# Altium footprint library EXP_HW_V3.PcbLib: 103 footprints (part 1 of 7)
Each footprint in its own frame and in the unit in brackets; x right, y up, seen from the top. Pads: shape width x height; smd on the part's side, far side on the other; paste and mask are expansions set on the pad; w line width, h text height; cw(c..) or ccw(c..) is an arc to the next point about the centre after c.
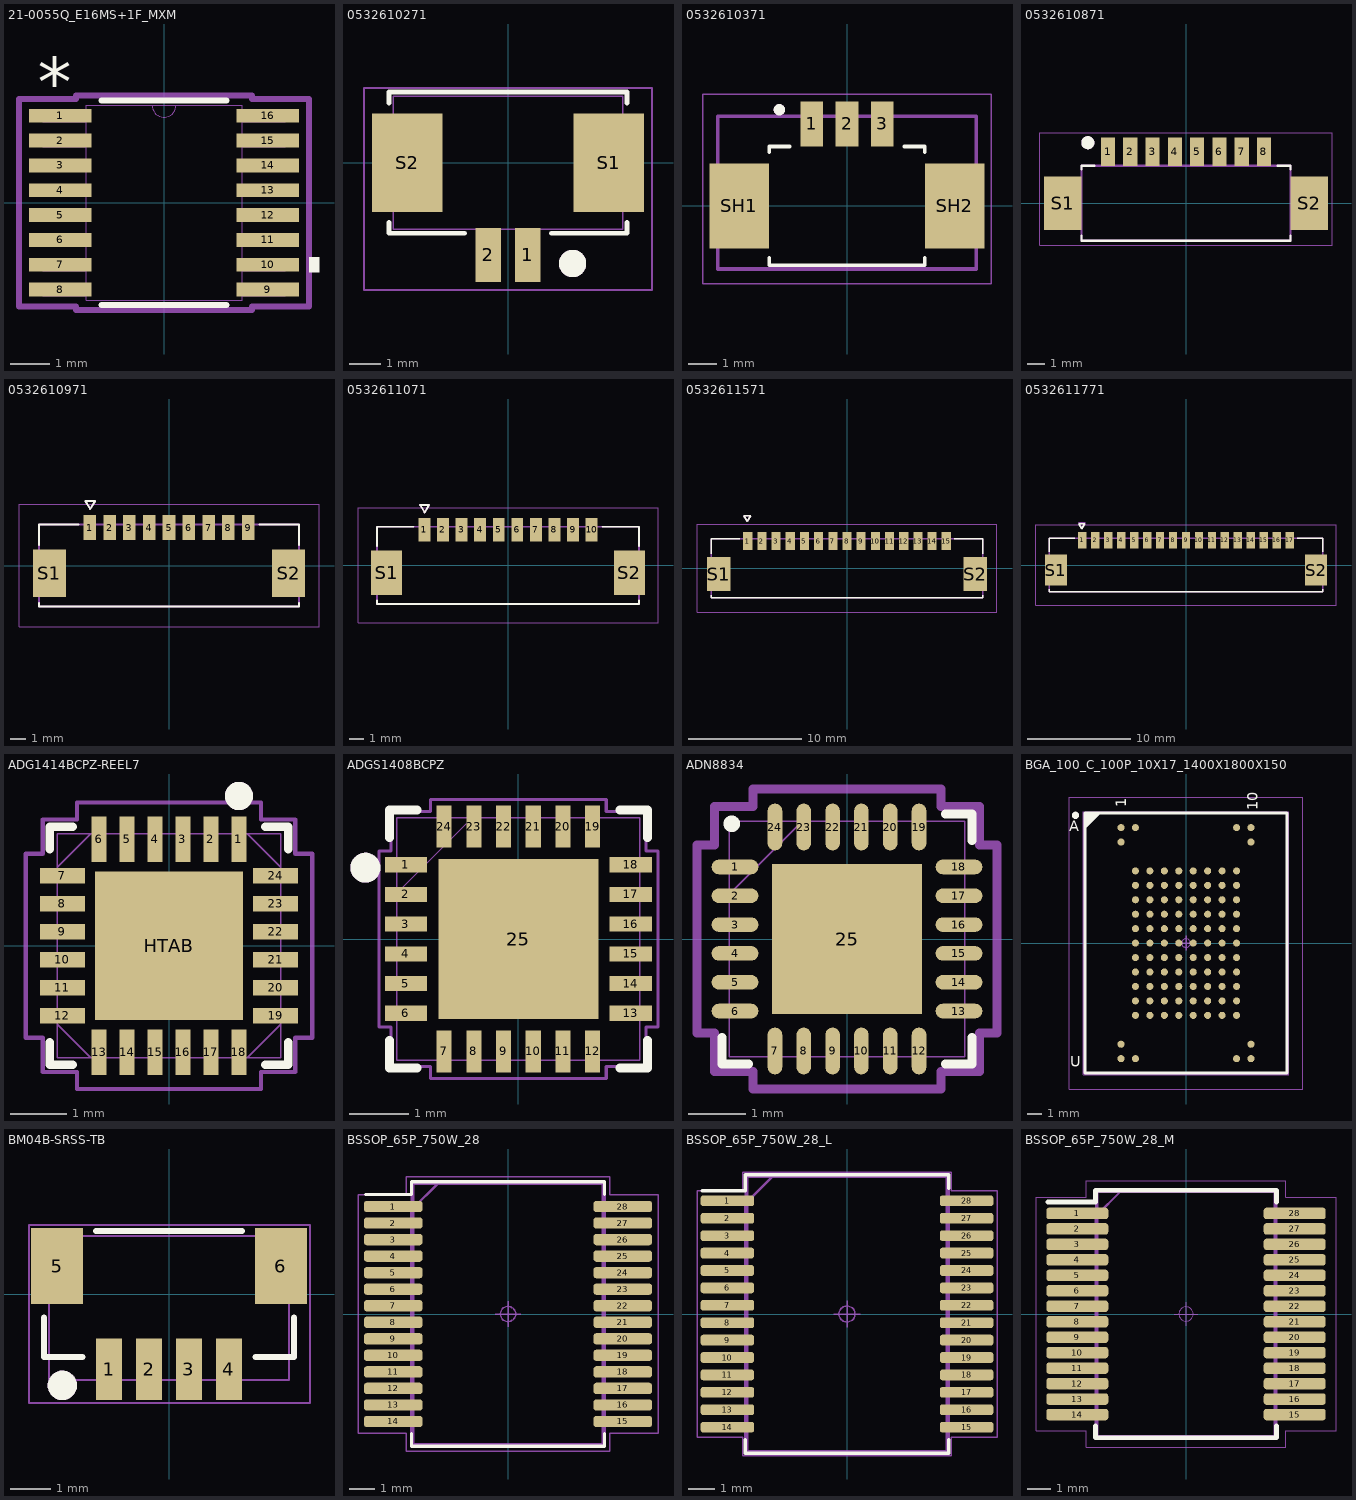
[diagram p0: the footprints below, top view; thin cyan lines are the x and y axes]

## 21-0055Q_E16MS+1F_MXM [mil]
pads (16):
  rect 63x14 smd paste+0: 1(-104.5,87.5) 2(-104.5,62.5) 3(-104.5,37.5) 4(-104.5,12.5) 5(-104.5,-12.5) 6(-104.5,-37.5) 7(-104.5,-62.5) 8(-104.5,-87.5) 9(104.5,-87.5) 10(104.5,-62.5) 11(104.5,-37.5) 12(104.5,-12.5) 13(104.5,12.5) 14(104.5,37.5) 15(104.5,62.5) 16(104.5,87.5)
Top Overlay:
  region: 146,-55 156,-55 156,-70 146,-70
  lines w6: -63.03,-103 63.03,-103 ; -63.03,103 63.03,103
  text "*" at -127,96.5 h50
Mechanical 13:
  lines w0: -12,98 ccw(c0,98) 12,98
  lines w1: -122,-93.5 -122,-81.5 -78.5,-81.5 -78.5,-93.5 -122,-93.5 ; -122,-68.5 -122,-56.5 -78.5,-56.5 -78.5,-68.5 -122,-68.5 ; -122,-43.5 -122,-31.5 -78.5,-31.5 -78.5,-43.5 -122,-43.5 ; -122,-18.5 -122,-6.5 -78.5,-6.5 -78.5,-18.5 -122,-18.5 ; -122,6.5 -122,18.5 -78.5,18.5 -78.5,6.5 -122,6.5 ; -122,31.5 -122,43.5 -78.5,43.5 -78.5,31.5 -122,31.5 ; -122,56.5 -122,68.5 -78.5,68.5 -78.5,56.5 -122,56.5 ; -122,81.5 -122,93.5 -78.5,93.5 -78.5,81.5 -122,81.5 ; -78.5,-98 78.5,-98 78.5,98 -78.5,98 -78.5,-98 ; 78.5,-93.5 78.5,-81.5 122,-81.5 122,-93.5 78.5,-93.5 ; 78.5,-68.5 78.5,-56.5 122,-56.5 122,-68.5 78.5,-68.5 ; 78.5,-43.5 78.5,-31.5 122,-31.5 122,-43.5 78.5,-43.5 ; 78.5,-18.5 78.5,-6.5 122,-6.5 122,-18.5 78.5,-18.5 ; 78.5,6.5 78.5,18.5 122,18.5 122,6.5 78.5,6.5 ; 78.5,31.5 78.5,43.5 122,43.5 122,31.5 78.5,31.5 ; 78.5,56.5 78.5,68.5 122,68.5 122,56.5 78.5,56.5 ; 78.5,81.5 78.5,93.5 122,93.5 122,81.5 78.5,81.5
  text "*" at -76,45 h50
Mechanical 15:
  lines w6: -146,-104.5 -146,104.5 -88.5,104.5 -88.5,108 88.5,108 88.5,104.5 146,104.5 146,-104.5 88.5,-104.5 88.5,-108 -88.5,-108 -88.5,-104.5 -146,-104.5
3D body "21-0055Q_E16MS+1F_MXM.step": height 69.09, standoff 0, extent -122.01,-97.99 122.01,97.99

## 0532610271 [mil] "CONN HEADER SMD R/A 2POS 1.25MM"
pads (4):
  rect 32x67 smd paste+0: 1(24.61,-114.35) 2(-24.61,-114.35)
  rect 87x122 smd paste+0: S1(125,-0.18) S2(-125,-0.18)
Top Overlay:
  circle w20: c80,-125 r7
  lines w6: -147.5,-74.28 -147.5,-87.5 -53.71,-87.5 ; -147.5,73.92 -147.5,87.5 147.5,87.5 147.5,73.92 ; 53.71,-87.5 147.5,-87.5 147.5,-74.28
Mechanical 13:
  circle w20: c80,-125 r7
  lines w2: -142.5,-82.5 -142.5,82.5 142.5,82.5 142.5,-82.5 -142.5,-82.5
Mechanical 15:
  lines w2: -178.5,-157.85 178.5,-157.85 178.5,92.5 -178.5,92.5 -178.5,-157.85
3D body "0532610271.step": height 133.86, standoff 0, extent -150.59,-115 150.59,89.72

## 0532610371 [mm] "CONN HEADER SMD R/A 3POS 1.25MM"
pads (5):
  rect 0.8x1.6 smd: 1(-1.25,2.9) 2(0,2.9) 3(1.25,2.9)
  rect 2.1x3 smd: SH1(-3.8,0) SH2(3.8,0)
Top Overlay:
  circle w0.2: c-2.39,3.4 r0.1
  lines w0.127: -2.75,-1.825 -2.75,-2.1 2.75,-2.1 2.75,-1.825 ; -2.75,1.9 -2.75,2.1 -2.025,2.1 ; 2.025,2.1 2.75,2.1 2.75,1.9
Top Assembly:
  lines w0.127: -4.572,-2.228 4.572,-2.228 4.572,3.175 -4.572,3.175 -4.572,-2.228
  text "'.Designator'" at -9.318,-1.454 h1.9
Mechanical 13:
  circle w0.2: c-2.39,3.4 r0.1
Mechanical 15:
  lines w0.05: -5.1,-2.75 -5.1,3.95 5.1,3.95 5.1,-2.75 -5.1,-2.75
3D body "0532610371.step": height 3.43, standoff 0.03, extent -4.45,-2.118 4.45,3.082

## 0532610871 [mm] "CONN HEADER SMD R/A 8POS 1.25MM"
pads (10):
  rect 0.8x1.6 smd: 1(-4.375,2.9) 2(-3.125,2.9) 3(-1.875,2.9) 4(-0.625,2.9) 5(0.625,2.9) 6(1.875,2.9) 7(3.125,2.9) 8(4.375,2.9)
  rect 2.1x3 smd: S1(-6.925,0) S2(6.925,0)
Top Overlay:
  circle w0.381: c-5.515,3.4 r0.178
  lines w0.127: -5.875,-1.825 -5.875,-2.1 5.875,-2.1 5.875,-1.825 ; -5.875,1.9 -5.875,2.1 -5.15,2.1 ; 5.15,2.1 5.875,2.1 5.875,1.9
Top Assembly:
  circle w0.381: c-5.515,3.4 r0.178
  lines w0.127: -5.875,-2.1 -5.875,2.1 5.875,2.1 5.875,-2.1 -5.875,-2.1
  text "'.Designator'" at -9.318,-1.454 h1.8
Mechanical 15:
  lines w0.05: -8.225,-2.35 -8.225,3.95 8.225,3.95 8.225,-2.35 -8.225,-2.35

## 0532610971 [mm] "CONN HEADER SMD R/A 9POS 1.25MM"
pads (11):
  rect 0.8x1.6 smd mask+0.076: 1(-5,2.4) 2(-3.75,2.4) 3(-2.5,2.4) 4(-1.25,2.4) 5(0,2.4) 6(1.25,2.4) 7(2.5,2.4) 8(3.75,2.4) 9(5,2.4)
  rect 2.1x3 smd mask+0.076: S1(-7.55,-0.5) S2(7.55,-0.5)
Top Overlay:
  lines w0.127: -8.2,-2.35 -8.2,-2.6 8.2,-2.6 8.2,-2.35 ; -8.2,1.3 -8.2,2.6 -5.72,2.6 ; 5.72,2.6 8.2,2.6 8.2,1.3 ; -5.278,4.067 -4.678,4.067 -4.978,3.567 -5.278,4.067
Top Assembly:
  text "'.Designator'" at -11.717,-2.718 h1.9
Mechanical 13:
  lines w0.127: -8.2,-2.6 8.2,-2.6 8.2,2.6 -8.2,2.6 -8.2,-2.6 ; -5.278,4.067 -4.678,4.067 -4.978,3.567 -5.278,4.067
Mechanical 15:
  lines w0.05: -9.47,-3.87 9.47,-3.87 9.47,3.87 -9.47,3.87 -9.47,-3.87
3D body "0532610971.stp": height 3.2, standoff -0.2, extent -8.2,-2.667 8.2,2.533

## 0532611071 [mm] "CONN HEADER SMD R/A 10POS 1.25MM"
pads (12):
  rect 0.8x1.6 smd mask+0.076: 1(-5.625,2.4) 2(-4.375,2.4) 3(-3.125,2.4) 4(-1.875,2.4) 5(-0.625,2.4) 6(0.625,2.4) 7(1.875,2.4) 8(3.125,2.4) 9(4.375,2.4) 10(5.625,2.4)
  rect 2.1x3 smd mask+0.076: S1(-8.175,-0.5) S2(8.175,-0.5)
Top Overlay:
  lines w0.127: -8.825,-2.35 -8.825,-2.6 8.825,-2.6 8.825,-2.35 ; -8.825,1.3 -8.825,2.6 -6.345,2.6 ; 6.345,2.6 8.825,2.6 8.825,1.3 ; -5.913,4.057 -5.313,4.057 -5.613,3.557 -5.913,4.057
Top Assembly:
  lines w0.127: -8.825,-2.6 -8.825,2.6 8.825,2.6 8.825,-2.6 -8.825,-2.6 ; -5.913,4.057 -5.613,3.557 -5.313,4.057 -5.913,4.057
  text "'.Designator'" at -9.318,-1.454 h1.6
Mechanical 15:
  lines w0.05: -10.095,-3.87 10.095,-3.87 10.095,3.87 -10.095,3.87 -10.095,-3.87
3D body "532611071.step": height 3.43, standoff 0.03, extent -8.825,-2.626 8.825,2.574

## 0532611571 [mm]
height 3.4
pads (17):
  rect 0.8x1.6 smd mask+0.076: 1(-8.75,2.4) 2(-7.5,2.4) 3(-6.25,2.4) 4(-5,2.4) 5(-3.75,2.4) 6(-2.5,2.4) 7(-1.25,2.4) 8(0,2.4) 9(1.25,2.4) 10(2.5,2.4) 11(3.75,2.4) 12(5,2.4) 13(6.25,2.4) 14(7.5,2.4) 15(8.75,2.4)
  rect 2.1x3 smd mask+0.076: S1(-11.3,-0.5) S2(11.3,-0.5)
Top Overlay:
  lines w0.127: -11.95,-2.35 -11.95,-2.6 11.95,-2.6 11.95,-2.35 ; -11.95,1.3 -11.95,2.6 -9.47,2.6 ; 9.47,2.6 11.95,2.6 11.95,1.3 ; -9.088,4.642 -8.788,4.142 -8.488,4.642 -9.088,4.642
Mechanical 13:
  lines w0.127: -11.95,-2.6 -11.95,2.6 11.95,2.6 11.95,-2.6 -11.95,-2.6 ; -9.088,4.642 -8.788,4.142 -8.488,4.642 -9.088,4.642
Mechanical 15:
  lines w0.05: -13.22,-3.87 -13.22,3.87 13.22,3.87 13.22,-3.87 -13.22,-3.87
3D body "532611571.stp": height 3.45, standoff 0.05, extent -11.95,-2.607 11.95,2.593

## 0532611771 [mm] "CONN HEADER SMD R/A 17POS 1.25MM"
pads (19):
  rect 0.8x1.6 smd mask+0.076: 1(-10,2.4) 2(-8.75,2.4) 3(-7.5,2.4) 4(-6.25,2.4) 5(-5,2.4) 6(-3.75,2.4) 7(-2.5,2.4) 8(-1.25,2.4) 9(0,2.4) 10(1.25,2.4) 11(2.5,2.4) 12(3.75,2.4) 13(5,2.4) 14(6.25,2.4) 15(7.5,2.4) 16(8.75,2.4) 17(10,2.4)
  rect 2.1x3 smd mask+0.076: S1(-12.55,-0.5) S2(12.55,-0.5)
Top Overlay:
  lines w0.127: -13.2,-2.35 -13.2,-2.6 13.2,-2.6 13.2,-2.35 ; -13.2,1.3 -13.2,2.6 -10.72,2.6 ; 10.72,2.6 13.2,2.6 13.2,1.3 ; -10.358,3.987 -10.058,3.487 -9.758,3.987 -10.358,3.987
Top Assembly:
  lines w0.127: -13.2,-2.6 13.2,-2.6 13.2,2.6 -13.2,2.6 -13.2,-2.6 ; -10.333,4.064 -9.733,4.064 -10.033,3.564 -10.333,4.064
  text "'.Designator'" at -9.318,-1.454 h1.9
Mechanical 15:
  lines w0.05: -14.47,-3.87 -14.47,3.87 14.47,3.87 14.47,-3.87 -14.47,-3.87
3D body "0532611771.stp": height 3.5, standoff 0, extent -13.39,-2.425 13.39,3.145

## ADG1414BCPZ-REEL7 [mm] "IC SW SPST-NOX8 11.5OHM 24LFCSP"
pads (25):
  rect 0.275x0.805 smd paste+0 mask+0.127: 1(1.25,1.902) 2(0.75,1.902) 3(0.25,1.902) 4(-0.25,1.902) 5(-0.75,1.902) 6(-1.25,1.902) 13(-1.25,-1.902) 14(-0.75,-1.902) 15(-0.25,-1.902) 16(0.25,-1.902) 17(0.75,-1.902) 18(1.25,-1.902)
  rect 0.805x0.275 smd paste+0 mask+0.127: 7(-1.902,1.25) 8(-1.902,0.75) 9(-1.902,0.25) 10(-1.902,-0.25) 11(-1.902,-0.75) 12(-1.902,-1.25) 19(1.902,-1.25) 20(1.902,-0.75) 21(1.902,-0.25) 22(1.902,0.25) 23(1.902,0.75) 24(1.902,1.25)
  rect 2.65x2.65 smd paste+0 mask+0.127: HTAB(0,0)
Top Overlay:
  circle w0.254: c1.25,2.675 r0.125
  lines w0.152: -2.127,-1.72 -2.127,-2.127 -1.72,-2.127 ; -2.127,1.72 -2.127,2.127 -1.72,2.127 ; 1.72,-2.127 2.127,-2.127 2.127,-1.72 ; 1.72,2.127 2.127,2.127 2.127,1.72
Top Paste:
  region: -0.1,1.225 -1.225,1.225 -1.225,0.1 -0.1,0.1
  region: -0.1,-0.1 -1.225,-0.1 -1.225,-1.225 -0.1,-1.225
  region: 1.225,1.225 0.1,1.225 0.1,0.1 1.225,0.1
  region: 1.225,-0.1 0.1,-0.1 0.1,-1.225 1.225,-1.225
Top Assembly:
  circle w0.254: c1.25,2.675 r0.125
Mechanical 13:
  lines w0.025: -2,-1.4 -1.4,-2 ; -2,-1.4 -2,-1.1 -2,-1.4 ; -2,1.4 -1.4,2 ; -2,1.4 -2,1.1 -2,1.4 ; -1.4,-2 -1.1,-2 -1.4,-2 ; -1.4,2 -1.1,2 -1.4,2 ; 1.4,-2 2,-1.4 ; 1.4,-2 1.1,-2 1.4,-2 ; 1.4,2 2,1.4 ; 1.4,2 1.1,2 1.4,2 ; 2,-1.4 2,-1.1 2,-1.4 ; 2,1.4 2,1.1 2,1.4 ; -2,-2 2,-2 2,2 -2,2 -2,-2 ; -2,-0.9 -2,-0.6 -2,-0.9 ; -2,-0.4 -2,-0.1 -2,-0.4 ; -2,0.1 -2,0.4 -2,0.1 ; -2,0.6 -2,0.9 -2,0.6 ; -0.9,-2 -0.6,-2 -0.9,-2 ; -0.9,2 -0.6,2 -0.9,2 ; -0.4,-2 -0.1,-2 -0.4,-2 ; -0.4,2 -0.1,2 -0.4,2 ; 0.1,-2 0.4,-2 0.1,-2 ; 0.1,2 0.4,2 0.1,2 ; 0.6,-2 0.9,-2 0.6,-2 ; 0.6,2 0.9,2 0.6,2 ; 2,-0.9 2,-0.6 2,-0.9 ; 2,-0.4 2,-0.1 2,-0.4 ; 2,0.1 2,0.4 2,0.1 ; 2,0.6 2,0.9 2,0.6
  text "*" at 1.091,1.433 h0.64
Mechanical 15:
  lines w0.076: -2.559,-1.641 -2.254,-1.641 -2.254,-2.254 -1.641,-2.254 -1.641,-2.559 1.641,-2.559 1.641,-2.254 2.254,-2.254 2.254,-1.641 2.559,-1.641 2.559,1.641 2.254,1.641 2.254,2.254 1.641,2.254 1.641,2.559 -1.641,2.559 -1.641,2.254 -2.254,2.254 -2.254,1.641 -2.559,1.641 -2.559,-1.641
3D body "CP_24_3_ADI.step": height 0.6, standoff 0, extent -2,-2 2,2

## ADGS1408BCPZ [mil] "IC MUX 8:1 4.7OHM 24LFCSP"
pads (25):
  rect 28x10 smd paste+0 mask+0: 1(-74.5,49.21) 2(-74.5,29.53) 3(-74.5,9.84) 4(-74.5,-9.84) 5(-74.5,-29.53) 6(-74.5,-49.21) 13(74.5,-49.21) 14(74.5,-29.53) 15(74.5,-9.84) 16(74.5,9.84) 17(74.5,29.53) 18(74.5,49.21)
  rect 10x28 smd paste+0 mask+0: 7(-49.21,-74.5) 8(-29.53,-74.5) 9(-9.84,-74.5) 10(9.84,-74.5) 11(29.53,-74.5) 12(49.21,-74.5) 19(49.21,74.5) 20(29.53,74.5) 21(9.84,74.5) 22(-9.84,74.5) 23(-29.53,74.5) 24(-49.21,74.5)
  rect 106x106 smd paste-53 mask+0: 25(0,0)
Top Overlay:
  circle w10: c-101.38,47.24 r4.92
  lines w6: -85.5,-67.31 -85.5,-85.5 -67.31,-85.5 ; -85.5,67.31 -85.5,85.5 -67.31,85.5 ; 67.31,-85.5 85.5,-85.5 85.5,-67.31 ; 67.31,85.5 85.5,85.5 85.5,67.31
Top Paste:
  region: -3.94,49.06 -49.06,49.06 -49.06,3.94 -3.94,3.94
  region: -3.94,-3.94 -49.06,-3.94 -49.06,-49.06 -3.94,-49.06
  region: 49.06,49.06 3.94,49.06 3.94,3.94 49.06,3.94
  region: 49.06,-3.94 3.94,-3.94 3.94,-49.06 49.06,-49.06
Top Assembly:
  circle w10: c-101.38,47.24 r4.92
  text "'.Designator'" at -366.84,-58.21 h39.37
Mechanical 13:
  lines w1: -80.5,30.5 -30.5,80.5 ; -80.5,-80.5 80.5,-80.5 80.5,80.5 -80.5,80.5 -80.5,-80.5 ; -80.5,-55.21 -80.5,-43.21 -80.5,-55.21 ; -80.5,-35.53 -80.5,-23.53 -80.5,-35.53 ; -80.5,-15.84 -80.5,-3.84 -80.5,-15.84 ; -80.5,3.84 -80.5,15.84 -80.5,3.84 ; -80.5,23.53 -80.5,35.53 -80.5,23.53 ; -80.5,43.21 -80.5,55.21 -80.5,43.21 ; -55.21,-80.5 -43.21,-80.5 -55.21,-80.5 ; -55.21,80.5 -43.21,80.5 -55.21,80.5 ; -35.53,-80.5 -23.53,-80.5 -35.53,-80.5 ; -35.53,80.5 -23.53,80.5 -35.53,80.5 ; -15.84,-80.5 -3.84,-80.5 -15.84,-80.5 ; -15.84,80.5 -3.84,80.5 -15.84,80.5 ; 3.84,-80.5 15.84,-80.5 3.84,-80.5 ; 3.84,80.5 15.84,80.5 3.84,80.5 ; 23.53,-80.5 35.53,-80.5 23.53,-80.5 ; 23.53,80.5 35.53,80.5 23.53,80.5 ; 43.21,-80.5 55.21,-80.5 43.21,-80.5 ; 43.21,80.5 55.21,80.5 43.21,80.5 ; 80.5,-55.21 80.5,-43.21 80.5,-55.21 ; 80.5,-35.53 80.5,-23.53 80.5,-35.53 ; 80.5,-15.84 80.5,-3.84 80.5,-15.84 ; 80.5,3.84 80.5,15.84 80.5,3.84 ; 80.5,23.53 80.5,35.53 80.5,23.53 ; 80.5,43.21 80.5,55.21 80.5,43.21
Mechanical 15:
  lines w2: -92.5,-58.21 -84.5,-58.21 -84.5,-84.5 -58.21,-84.5 -58.21,-92.5 58.21,-92.5 58.21,-84.5 84.5,-84.5 84.5,-58.21 92.5,-58.21 92.5,58.21 84.5,58.21 84.5,84.5 58.21,84.5 58.21,92.5 -58.21,92.5 -58.21,84.5 -84.5,84.5 -84.5,58.21 -92.5,58.21 -92.5,-58.21
3D body "CP-24-17_ADI.step": height 39.09, standoff 0, extent -80.51,-80.51 80.51,80.51

## ADN8834 [mil] "IC THERMO COOLER DRIVER 24LFCSP"
pads (25):
  rrect100% 32x10 smd paste+0 mask+1.89: 1(-76.5,49.21) 2(-76.5,29.53) 3(-76.5,9.84) 4(-76.5,-9.84) 5(-76.5,-29.53) 6(-76.5,-49.21) 13(76.5,-49.21) 14(76.5,-29.53) 15(76.5,-9.84) 16(76.5,9.84) 17(76.5,29.53) 18(76.5,49.21)
  rrect100% 10x32 smd paste+0 mask+1.89: 7(-49.21,-76.5) 8(-29.53,-76.5) 9(-9.84,-76.5) 10(9.84,-76.5) 11(29.53,-76.5) 12(49.21,-76.5) 19(49.21,76.5) 20(29.53,76.5) 21(9.84,76.5) 22(-9.84,76.5) 23(-29.53,76.5) 24(-49.21,76.5)
  rect 102.36x102.36 smd paste-52 mask+1.89: 25(0,0)
Top Overlay:
  circle w5.91: c-78.74,78.74 r2.72
  lines w6: -85.5,-67.31 -85.5,-85.5 -67.31,-85.5 ; 67.31,-85.5 85.5,-85.5 85.5,-67.31 ; 67.31,85.5 85.5,85.5 85.5,67.31
Top Paste:
  region: 48.06,-3.94 3.94,-3.94 3.94,-48.06 48.06,-48.06
  region: 48.06,48.06 3.94,48.06 3.94,3.94 48.06,3.94
  region: -3.94,-3.94 -48.06,-3.94 -48.06,-48.06 -3.94,-48.06
  region: -3.94,48.06 -48.06,48.06 -48.06,3.94 -3.94,3.94
Mechanical 13:
  lines w1: -80.5,30.5 -30.5,80.5 ; -80.5,-80.5 -80.5,80.5 80.5,80.5 80.5,-80.5 -80.5,-80.5 ; -80.5,-55.21 -80.5,-43.21 -80.5,-55.21 ; -80.5,-35.53 -80.5,-23.53 -80.5,-35.53 ; -80.5,-15.84 -80.5,-3.84 -80.5,-15.84 ; -80.5,3.84 -80.5,15.84 -80.5,3.84 ; -80.5,23.53 -80.5,35.53 -80.5,23.53 ; -80.5,43.21 -80.5,55.21 -80.5,43.21 ; -55.21,-80.5 -43.21,-80.5 -55.21,-80.5 ; -55.21,80.5 -43.21,80.5 -55.21,80.5 ; -35.53,-80.5 -23.53,-80.5 -35.53,-80.5 ; -35.53,80.5 -23.53,80.5 -35.53,80.5 ; -15.84,-80.5 -3.84,-80.5 -15.84,-80.5 ; -15.84,80.5 -3.84,80.5 -15.84,80.5 ; 3.84,-80.5 15.84,-80.5 3.84,-80.5 ; 3.84,80.5 15.84,80.5 3.84,80.5 ; 23.53,-80.5 35.53,-80.5 23.53,-80.5 ; 23.53,80.5 35.53,80.5 23.53,80.5 ; 43.21,-80.5 55.21,-80.5 43.21,-80.5 ; 43.21,80.5 55.21,80.5 43.21,80.5 ; 80.5,-55.21 80.5,-43.21 80.5,-55.21 ; 80.5,-35.53 80.5,-23.53 80.5,-35.53 ; 80.5,-15.84 80.5,-3.84 80.5,-15.84 ; 80.5,3.84 80.5,15.84 80.5,3.84 ; 80.5,23.53 80.5,35.53 80.5,23.53 ; 80.5,43.21 80.5,55.21 80.5,43.21
  text "*" at -73,34.06 h50
Mechanical 15:
  lines w6: -102.5,-64.21 -102.5,64.21 -90.5,64.21 -90.5,90.5 -64.21,90.5 -64.21,102.5 64.21,102.5 64.21,90.5 90.5,90.5 90.5,64.21 102.5,64.21 102.5,-64.21 90.5,-64.21 90.5,-90.5 64.21,-90.5 64.21,-102.5 -64.21,-102.5 -64.21,-90.5 -90.5,-90.5 -90.5,-64.21 -102.5,-64.21
3D body "CP_24_7_ADI.step": height 32.09, standoff 0, extent -80.51,-80.51 80.51,80.51

## BGA_100_C_100P_10X17_1400X1800X150 [mm] "BGA, 100-Leads, Body 14.00x18.00mmx1.50mm, Pitch 1.00mm"
height 1.5
pads (200):
  round 0.49 smd: A1(-4.5,8) A2(-3.5,8) A9(3.5,8) A10(4.5,8) B1(-4.5,7) B10(4.5,7) D2(-3.5,5) D3(-2.5,5) D4(-1.5,5) D5(-0.5,5) D6(0.5,5) D7(1.5,5) D8(2.5,5) D9(3.5,5) E2(-3.5,4) E3(-2.5,4) E4(-1.5,4) E5(-0.5,4) E6(0.5,4) E7(1.5,4) E8(2.5,4) E9(3.5,4) F2(-3.5,3) F3(-2.5,3) F4(-1.5,3) F5(-0.5,3) F6(0.5,3) F7(1.5,3) F8(2.5,3) F9(3.5,3) G2(-3.5,2) G3(-2.5,2) G4(-1.5,2) G5(-0.5,2) G6(0.5,2) G7(1.5,2) G8(2.5,2) G9(3.5,2) H2(-3.5,1) H3(-2.5,1) H4(-1.5,1) H5(-0.5,1) H6(0.5,1) H7(1.5,1) H8(2.5,1) H9(3.5,1) J2(-3.5,0) J3(-2.5,0) J4(-1.5,0) J5(-0.5,0) J6(0.5,0) J7(1.5,0) J8(2.5,0) J9(3.5,0) K2(-3.5,-1) K3(-2.5,-1) K4(-1.5,-1) K5(-0.5,-1) K6(0.5,-1) K7(1.5,-1) K8(2.5,-1) K9(3.5,-1) L2(-3.5,-2) L3(-2.5,-2) L4(-1.5,-2) L5(-0.5,-2) L6(0.5,-2) L7(1.5,-2) L8(2.5,-2) L9(3.5,-2) M2(-3.5,-3) M3(-2.5,-3) M4(-1.5,-3) M5(-0.5,-3) M6(0.5,-3) M7(1.5,-3) M8(2.5,-3) M9(3.5,-3) N2(-3.5,-4) N3(-2.5,-4) N4(-1.5,-4) N5(-0.5,-4) N6(0.5,-4) N7(1.5,-4) N8(2.5,-4) N9(3.5,-4) P2(-3.5,-5) P3(-2.5,-5) P4(-1.5,-5) P5(-0.5,-5) P6(0.5,-5) P7(1.5,-5) P8(2.5,-5) P9(3.5,-5) T1(-4.5,-7) T10(4.5,-7) U1(-4.5,-8) U2(-3.5,-8) U9(3.5,-8) U10(4.5,-8)
  round 0.35 on Mech8 paste+0 mask+0: A1(-4.5,8) A2(-3.5,8) A9(3.5,8) A10(4.5,8) B1(-4.5,7) B10(4.5,7) D2(-3.5,5) D3(-2.5,5) D4(-1.5,5) D5(-0.5,5) D6(0.5,5) D7(1.5,5) D8(2.5,5) D9(3.5,5) E2(-3.5,4) E3(-2.5,4) E4(-1.5,4) E5(-0.5,4) E6(0.5,4) E7(1.5,4) E8(2.5,4) E9(3.5,4) F2(-3.5,3) F3(-2.5,3) F4(-1.5,3) F5(-0.5,3) F6(0.5,3) F7(1.5,3) F8(2.5,3) F9(3.5,3) G2(-3.5,2) G3(-2.5,2) G4(-1.5,2) G5(-0.5,2) G6(0.5,2) G7(1.5,2) G8(2.5,2) G9(3.5,2) H2(-3.5,1) H3(-2.5,1) H4(-1.5,1) H5(-0.5,1) H6(0.5,1) H7(1.5,1) H8(2.5,1) H9(3.5,1) J2(-3.5,0) J3(-2.5,0) J4(-1.5,0) J5(-0.5,0) J6(0.5,0) J7(1.5,0) J8(2.5,0) J9(3.5,0) K2(-3.5,-1) K3(-2.5,-1) K4(-1.5,-1) K5(-0.5,-1) K6(0.5,-1) K7(1.5,-1) K8(2.5,-1) K9(3.5,-1) L2(-3.5,-2) L3(-2.5,-2) L4(-1.5,-2) L5(-0.5,-2) L6(0.5,-2) L7(1.5,-2) L8(2.5,-2) L9(3.5,-2) M2(-3.5,-3) M3(-2.5,-3) M4(-1.5,-3) M5(-0.5,-3) M6(0.5,-3) M7(1.5,-3) M8(2.5,-3) M9(3.5,-3) N2(-3.5,-4) N3(-2.5,-4) N4(-1.5,-4) N5(-0.5,-4) N6(0.5,-4) N7(1.5,-4) N8(2.5,-4) N9(3.5,-4) P2(-3.5,-5) P3(-2.5,-5) P4(-1.5,-5) P5(-0.5,-5) P6(0.5,-5) P7(1.5,-5) P8(2.5,-5) P9(3.5,-5) T1(-4.5,-7) T10(4.5,-7) U1(-4.5,-8) U2(-3.5,-8) U9(3.5,-8) U10(4.5,-8)
Top Overlay:
  circle w0.25: c-7.65,8.85 r0.125
  region: -6,9 -7,8 -7,9
  lines w0.2: -7,8 -6,9 ; -7,-9 -7,9 7,9 7,-9 -7,-9
  text "10" at 5.2,9.2 h1.27
  text "1" at -3.9,9.4 h1.27
  text "U" at -8,-8.8 h1.27
  text "A" at -8.1,7.5 h1.27
Top Assembly:
  lines w0.025: -7.048,8.555 -6.549,9.055 ; -7.048,-9.055 -7.048,9.055 7.048,9.055 7.048,-9.055 -7.048,-9.055
  lines w0.1: -7,-9 -7,9 7,9 7,-9 -7,-9
  text "'.Designator'" at -3.952,-0.622 h1.5
  text "10" at 5.135,9.69 h1.27
  text "1" at -3.865,9.69 h1.27
  text "U" at -8.319,-8.635 h1.27
  text "A" at -8.319,7.365 h1.27
Top Courtyard:
  lines w0.05: -8.1,-10.1 -8.1,10.1 8.1,10.1 8.1,-10.1 -8.1,-10.1
  lines w0.1: -0.5,0 0.5,0 ; 0,-0.5 0,0.5
Top Component Outline:
  lines w0.05: -7.1,-9.1 -7.1,9.1 7.1,9.1 7.1,-9.1 -7.1,-9.1
Top Component Center:
  circle w0.05: c0,0 r0.3
  lines w0.05: -0.5,0 0.5,0 ; 0,-0.5 0,0.5
3D body "BGA100C100P10X17_1400X1800X150.step": height 1.5, standoff 0, extent -7,-9 7,9

## BM04B-SRSS-TB [mil] "CONN HEADER SMD 4POS 1MM"
pads (6):
  rect 26x61 smd paste+0 mask+1.97: 1(-59.06,-74.1) 2(-19.68,-74.1) 3(19.68,-74.1) 4(59.06,-74.1)
  rect 51x75 smd paste+0 mask+3.94: 5(-110.24,27.47) 6(110.24,27.47)
Top Overlay:
  circle w15: c-105,-90 r7
  lines w6: -123,-23.13 -123,-62 -85.16,-62 ; -71.64,62 71.64,62 ; 85.16,-62 123,-62 123,-23.13
Top Assembly:
  circle w15: c-105,-90 r7
  lines w2: -118,-84.65 118,-84.65 118,57 -118,57 -118,-84.65
  text "'.Designator'" at -366.84,-57.23 h59.06
Mechanical 15:
  lines w2: -137.8,-107.28 138.78,-107.28 138.78,67.91 -137.8,67.91 -137.8,-107.28
3D body "BM04B-SRSS-TB.STEP": height 172.26, standoff 1, extent -118.11,-84.65 118.11,57.09

## BSSOP_65P_750W_28 [mm]
pads (28):
  rrect50% 2.303x0.443 smd mask+0.11: 1(-4.515,4.225) 2(-4.515,3.575) 3(-4.515,2.925) 4(-4.515,2.275) 5(-4.515,1.625) 6(-4.515,0.975) 7(-4.515,0.325) 8(-4.515,-0.325) 9(-4.515,-0.975) 10(-4.515,-1.625) 11(-4.515,-2.275) 12(-4.515,-2.925) 13(-4.515,-3.575) 14(-4.515,-4.225) 15(4.515,-4.225) 16(4.515,-3.575) 17(4.515,-2.925) 18(4.515,-2.275) 19(4.515,-1.625) 20(4.515,-0.975) 21(4.515,-0.325) 22(4.515,0.325) 23(4.515,0.975) 24(4.515,1.625) 25(4.515,2.275) 26(4.515,2.925) 27(4.515,3.575) 28(4.515,4.225)
Top Overlay:
  lines w0.125: -5.6,4.7 -3.8,4.7 -3.8,5.2 3.8,5.2 3.8,4.7 ; -3.8,-4.7 -3.8,-5.2 3.8,-5.2 3.8,-4.8 3.8,-4.7
Top Assembly:
  lines w0.1: -3.8,-5.2 3.8,-5.2 3.8,5.2 -2.7,5.2 -3.8,4.1 -3.8,-5.2
  text "'.Designator'" at -3.952,-0.622 h1.5
Top Courtyard:
  lines w0.05: -5.9,-4.7 -5.9,-4.6 -5.9,4.7 -4,4.7 -4,5.4 3.8,5.4 4,5.4 4,4.7 5.9,4.7 5.9,-4.7 4,-4.7 4,-5.4 -4,-5.4 -4,-4.7 -5.9,-4.7
Top Component Outline:
  rectangle: -5.31,1.45 -4.04,1.8
  rectangle: -5.31,0.8 -4.04,1.15
  rectangle: -5.31,0.15 -4.04,0.5
  rectangle: -5.31,3.4 -4.04,3.75
  rectangle: -5.31,2.75 -4.04,3.1
  rectangle: -5.31,2.1 -4.04,2.45
  rectangle: -5.31,-3.1 -4.04,-2.75
  rectangle: -5.31,-3.75 -4.04,-3.4
  rectangle: -5.31,-4.4 -4.04,-4.05
  rectangle: -5.31,-2.45 -4.04,-2.1
  rectangle: -5.31,-0.5 -4.04,-0.15
  rectangle: -5.31,-1.15 -4.04,-0.8
  rectangle: -5.31,-1.8 -4.04,-1.45
  rectangle: 4.04,3.4 5.31,3.75
  rectangle: 4.04,4.05 5.31,4.4
  rectangle: 4.04,2.75 5.31,3.1
  rectangle: 4.04,2.1 5.31,2.45
  rectangle: 4.04,1.45 5.31,1.8
  rectangle: 4.04,0.8 5.31,1.15
  rectangle: 4.04,0.15 5.31,0.5
  rectangle: 4.04,-0.5 5.31,-0.15
  rectangle: 4.04,-1.15 5.31,-0.8
  rectangle: 4.04,-1.8 5.31,-1.45
  rectangle: 4.04,-2.45 5.31,-2.1
  rectangle: 4.04,-3.1 5.31,-2.75
  rectangle: 4.04,-3.75 5.31,-3.4
  rectangle: 4.04,-4.4 5.31,-4.05
  rectangle: -5.31,4.05 -4.04,4.4
  lines w0.05: -3.8,-5.2 -3.8,5.2 3.8,5.2 3.8,-5.2 -3.8,-5.2
Mechanical 13:
  lines w0.15: -3.75,-5.15 3.75,-5.15 3.75,5.15 -3.75,5.15 -3.75,-5.15
Top Component Center:
  circle w0.05: c0,0 r0.3
  lines w0.05: -0.5,0 0.5,0 ; 0,-0.5 0,0.5
3D body "DP0028A.stp": height 2.59, standoff 0, extent -5.167,-5.15 5.167,5.15

## BSSOP_65P_750W_28_L [mm]
pads (28):
  rrect50% 2.003x0.403 smd: 1(-4.465,4.225) 2(-4.465,3.575) 3(-4.465,2.925) 4(-4.465,2.275) 5(-4.465,1.625) 6(-4.465,0.975) 7(-4.465,0.325) 8(-4.465,-0.325) 9(-4.465,-0.975) 10(-4.465,-1.625) 11(-4.465,-2.275) 12(-4.465,-2.925) 13(-4.465,-3.575) 14(-4.465,-4.225) 15(4.465,-4.225) 16(4.465,-3.575) 17(4.465,-2.925) 18(4.465,-2.275) 19(4.465,-1.625) 20(4.465,-0.975) 21(4.465,-0.325) 22(4.465,0.325) 23(4.465,0.975) 24(4.465,1.625) 25(4.465,2.275) 26(4.465,2.925) 27(4.465,3.575) 28(4.465,4.225)
Top Overlay:
  lines w0.125: -5.4,4.6 -3.8,4.6 -3.8,4.7 -3.8,5.2 3.8,5.2 3.8,4.7 ; -3.8,-4.7 -3.8,-5.2 3.8,-5.2 3.8,-4.8 3.8,-4.7
Top Assembly:
  lines w0.1: -3.8,-5.2 3.8,-5.2 3.8,5.2 -2.7,5.2 -3.8,4.1 -3.8,-5.2
  text "'.Designator'" at -3.952,-0.622 h1.5
Top Courtyard:
  lines w0.05: -5.6,-4.6 -5.6,-4.5 -5.6,4.6 -3.9,4.6 -3.9,5.3 3.8,5.3 3.9,5.3 3.9,4.6 5.6,4.6 5.6,-4.6 3.9,-4.6 3.9,-5.3 -3.9,-5.3 -3.9,-4.6 -5.6,-4.6
Top Component Outline:
  rectangle: -5.31,1.45 -4.04,1.8
  rectangle: -5.31,0.8 -4.04,1.15
  rectangle: -5.31,0.15 -4.04,0.5
  rectangle: -5.31,3.4 -4.04,3.75
  rectangle: -5.31,2.75 -4.04,3.1
  rectangle: -5.31,2.1 -4.04,2.45
  rectangle: -5.31,-3.1 -4.04,-2.75
  rectangle: -5.31,-3.75 -4.04,-3.4
  rectangle: -5.31,-4.4 -4.04,-4.05
  rectangle: -5.31,-2.45 -4.04,-2.1
  rectangle: -5.31,-0.5 -4.04,-0.15
  rectangle: -5.31,-1.15 -4.04,-0.8
  rectangle: -5.31,-1.8 -4.04,-1.45
  rectangle: 4.04,3.4 5.31,3.75
  rectangle: 4.04,4.05 5.31,4.4
  rectangle: 4.04,2.75 5.31,3.1
  rectangle: 4.04,2.1 5.31,2.45
  rectangle: 4.04,1.45 5.31,1.8
  rectangle: 4.04,0.8 5.31,1.15
  rectangle: 4.04,0.15 5.31,0.5
  rectangle: 4.04,-0.5 5.31,-0.15
  rectangle: 4.04,-1.15 5.31,-0.8
  rectangle: 4.04,-1.8 5.31,-1.45
  rectangle: 4.04,-2.45 5.31,-2.1
  rectangle: 4.04,-3.1 5.31,-2.75
  rectangle: 4.04,-3.75 5.31,-3.4
  rectangle: 4.04,-4.4 5.31,-4.05
  rectangle: -5.31,4.05 -4.04,4.4
  lines w0.05: -3.8,-5.2 -3.8,5.2 3.8,5.2 3.8,-5.2 -3.8,-5.2
Mechanical 13:
  lines w0.15: -3.75,-5.15 3.75,-5.15 3.75,5.15 -3.75,5.15 -3.75,-5.15
Top Component Center:
  circle w0.05: c0,0 r0.3
  lines w0.05: -0.5,0 0.5,0 ; 0,-0.5 0,0.5
3D body "DP0028A.stp": height 2.59, standoff 0, extent -5.167,-5.15 5.167,5.15

## BSSOP_65P_750W_28_M [mm]
pads (28):
  rrect50% 2.603x0.483 smd: 1(-4.565,4.225) 2(-4.565,3.575) 3(-4.565,2.925) 4(-4.565,2.275) 5(-4.565,1.625) 6(-4.565,0.975) 7(-4.565,0.325) 8(-4.565,-0.325) 9(-4.565,-0.975) 10(-4.565,-1.625) 11(-4.565,-2.275) 12(-4.565,-2.925) 13(-4.565,-3.575) 14(-4.565,-4.225) 15(4.565,-4.225) 16(4.565,-3.575) 17(4.565,-2.925) 18(4.565,-2.275) 19(4.565,-1.625) 20(4.565,-0.975) 21(4.565,-0.325) 22(4.565,0.325) 23(4.565,0.975) 24(4.565,1.625) 25(4.565,2.275) 26(4.565,2.925) 27(4.565,3.575) 28(4.565,4.225)
Top Overlay:
  lines w0.2: -5.8,4.7 -3.8,4.7 -3.8,5.2 3.8,5.2 3.8,4.7 ; -3.8,-4.7 -3.8,-5.2 3.8,-5.2 3.8,-4.8 3.8,-4.7
Top Assembly:
  lines w0.1: -3.8,-5.2 3.8,-5.2 3.8,5.2 -2.7,5.2 -3.8,4.1 -3.8,-5.2
  text "'.Designator'" at -3.952,-0.622 h1.5
Top Courtyard:
  lines w0.05: -6.3,-4.9 -6.3,4.9 -4.2,4.9 -4.2,5.6 3.8,5.6 4.2,5.6 4.2,4.9 6.3,4.9 6.3,4.7 6.3,-4.9 4.2,-4.9 4.2,-5.6 -4.2,-5.6 -4.2,-4.9 -6.3,-4.9
Top Component Outline:
  rectangle: -5.31,1.45 -4.04,1.8
  rectangle: -5.31,0.8 -4.04,1.15
  rectangle: -5.31,0.15 -4.04,0.5
  rectangle: -5.31,3.4 -4.04,3.75
  rectangle: -5.31,2.75 -4.04,3.1
  rectangle: -5.31,2.1 -4.04,2.45
  rectangle: -5.31,-3.1 -4.04,-2.75
  rectangle: -5.31,-3.75 -4.04,-3.4
  rectangle: -5.31,-4.4 -4.04,-4.05
  rectangle: -5.31,-2.45 -4.04,-2.1
  rectangle: -5.31,-0.5 -4.04,-0.15
  rectangle: -5.31,-1.15 -4.04,-0.8
  rectangle: -5.31,-1.8 -4.04,-1.45
  rectangle: 4.04,3.4 5.31,3.75
  rectangle: 4.04,4.05 5.31,4.4
  rectangle: 4.04,2.75 5.31,3.1
  rectangle: 4.04,2.1 5.31,2.45
  rectangle: 4.04,1.45 5.31,1.8
  rectangle: 4.04,0.8 5.31,1.15
  rectangle: 4.04,0.15 5.31,0.5
  rectangle: 4.04,-0.5 5.31,-0.15
  rectangle: 4.04,-1.15 5.31,-0.8
  rectangle: 4.04,-1.8 5.31,-1.45
  rectangle: 4.04,-2.45 5.31,-2.1
  rectangle: 4.04,-3.1 5.31,-2.75
  rectangle: 4.04,-3.75 5.31,-3.4
  rectangle: 4.04,-4.4 5.31,-4.05
  rectangle: -5.31,4.05 -4.04,4.4
  lines w0.05: -3.8,-5.2 -3.8,5.2 3.8,5.2 3.8,-5.2 -3.8,-5.2
Mechanical 13:
  lines w0.15: -3.75,-5.15 3.75,-5.15 3.75,5.15 -3.75,5.15 -3.75,-5.15
Top Component Center:
  circle w0.05: c0,0 r0.3
  lines w0.05: -0.5,0 0.5,0 ; 0,-0.5 0,0.5
3D body "DP0028A.stp": height 2.59, standoff 0, extent -5.167,-5.15 5.167,5.15